# Altium footprint library Miscellaneous Devices.PcbLib: 179 footprints (part 1 of 12)
Each footprint in its own frame and in the unit in brackets; x right, y up, seen from the top. Pads: shape width x height; smd on the part's side, far side on the other; paste and mask are expansions set on the pad; w line width, h text height; cw(c..) or ccw(c..) is an arc to the next point about the centre after c.
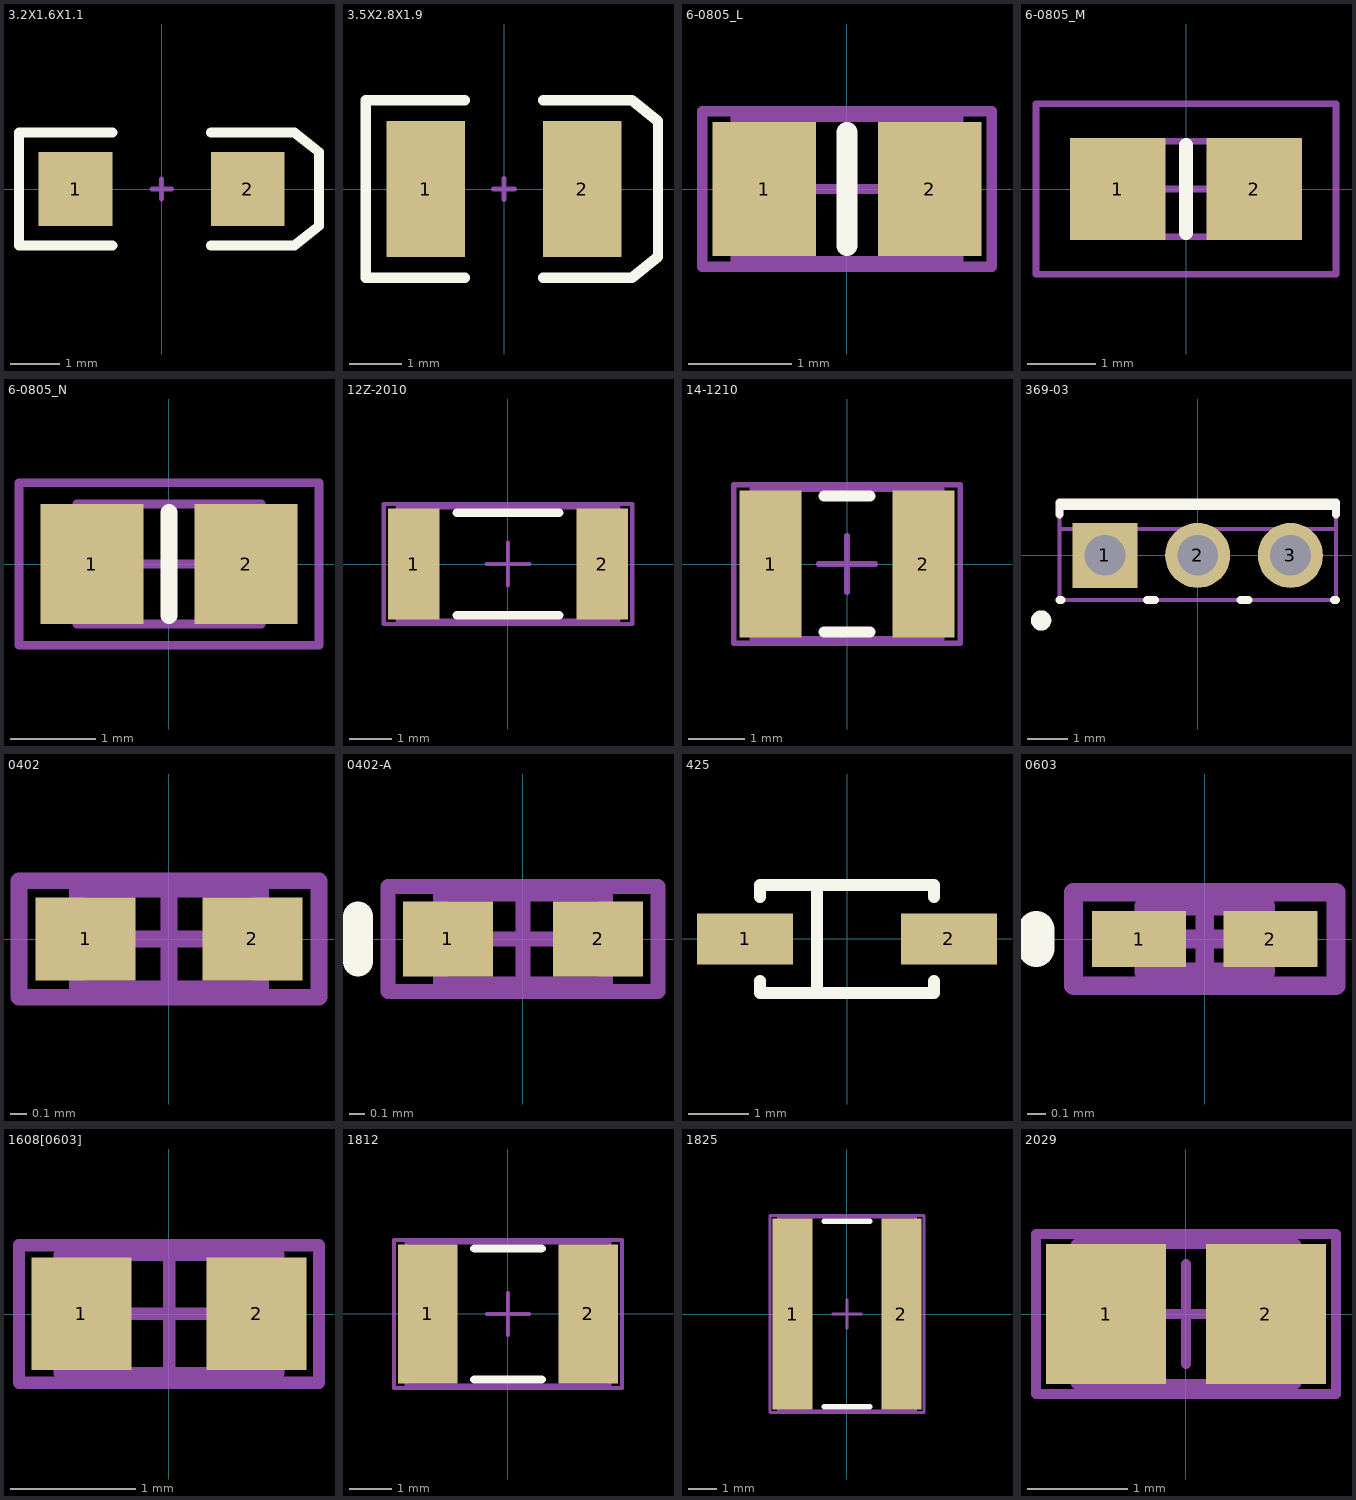
[diagram p0: the footprints below, top view; thin cyan lines are the x and y axes]

## 3.2X1.6X1.1 [mm] "SMT LED; 2 Flat Leads"
height 1.2
pads (2):
  rect 1.5x1.5 smd: 1(-1.75,0) 2(1.75,0)
Top Overlay:
  lines w0.2: -1,-1.15 -2.9,-1.15 -2.9,1.15 -1,1.15 ; 1,-1.15 2.7,-1.15 3.2,-0.75 3.2,0.75 2.7,1.15 1,1.15
Mechanical 1:
  lines w0.1: -0.2,0 0.2,0 ; 0,-0.2 0,0.2

## 3.5X2.8X1.9 [mm] "SM LED; 2 C-Bend Leads; Body 3.5 x 2.8 x 1.9 mm, inc leads (LxWxH typ)"
height 1.9
pads (2):
  rect 1.5x2.6 smd: 1(-1.5,0) 2(1.5,0)
Top Overlay:
  lines w0.2: -0.75,-1.7 -2.65,-1.7 -2.65,1.7 -0.75,1.7 ; 0.75,-1.7 2.45,-1.7 2.95,-1.3 2.95,1.3 2.45,1.7 0.75,1.7
Mechanical 1:
  lines w0.1: -0.2,0 0.2,0 ; 0,-0.2 0,0.2

## 6-0805_L [mm] "Chip Resistor, Body 2.0x1.2mm, IPC High Density"
height 0.7
pads (2):
  rect 1x1.3 smd: 1(-0.8,0) 2(0.8,0)
Top Overlay:
  lines w0.2: 0,-0.55 0,0.55
Mechanical 13:
  lines w0.1: -1.075,-0.7 -1.075,0.7 1.075,0.7 1.075,-0.7 -1.075,-0.7
Mechanical 15:
  lines w0.1: -0.5,0 0.5,0 ; 0,-0.5 0,0.5 ; -1.4,-0.75 -1.4,0.75 1.4,0.75 1.4,-0.75 -1.4,-0.75
3D body: height 0.7, standoff 0, extent -1.075,-0.7 1.075,0.7

## 6-0805_M [mm] "Chip Resistor, Body 2.0x1.2mm, IPC Low Density"
height 0.7
pads (2):
  rect 1.4x1.5 smd: 1(-1,0) 2(1,0)
Top Overlay:
  lines w0.2: 0,-0.65 0,0.65
Mechanical 13:
  lines w0.1: -1.075,-0.7 -1.075,0.7 1.075,0.7 1.075,-0.7 -1.075,-0.7
Mechanical 15:
  lines w0.1: -0.5,0 0.5,0 ; 0,-0.5 0,0.5 ; -2.2,-1.25 -2.2,1.25 2.2,1.25 2.2,-1.25 -2.2,-1.25
3D body: height 0.7, standoff 0, extent -1.075,-0.7 1.075,0.7

## 6-0805_N [mm] "Chip Resistor, Body 2.0x1.2mm, IPC Medium Density"
height 0.7
pads (2):
  rect 1.2x1.4 smd: 1(-0.9,0) 2(0.9,0)
Top Overlay:
  lines w0.2: 0,-0.6 0,0.6
Mechanical 13:
  lines w0.1: -1.075,-0.7 -1.075,0.7 1.075,0.7 1.075,-0.7 -1.075,-0.7
Mechanical 15:
  lines w0.1: -0.5,0 0.5,0 ; 0,-0.5 0,0.5 ; -1.75,-0.95 -1.75,0.95 1.75,0.95 1.75,-0.95 -1.75,-0.95
3D body: height 0.7, standoff 0, extent -1.075,-0.7 1.075,0.7

## 12Z-2010 [mm] "Chip Resistor, Body 5.0x2.5mm, IPC High Density"
height 0.9
pads (2):
  rect 1.2x2.6 smd: 1(-2.2,0) 2(2.2,0)
Top Overlay:
  lines w0.2: -1.2,-1.2 1.2,-1.2 ; -1.2,1.2 1.2,1.2
Mechanical 13:
  lines w0.1: -2.575,-1.325 -2.575,1.325 2.575,1.325 2.575,-1.325 -2.575,-1.325
Mechanical 15:
  lines w0.1: -0.5,0 0.5,0 ; 0,-0.5 0,0.5 ; -2.9,-1.4 -2.9,1.4 2.9,1.4 2.9,-1.4 -2.9,-1.4
3D body: height 0.9, standoff 0, extent -2.575,-1.325 2.575,1.325

## 14-1210 [mm] "Chip Resistor, Body 3.2x2.5mm, IPC High Density"
height 0.9
pads (2):
  rect 1.1x2.6 smd: 1(-1.35,0) 2(1.35,0)
Top Overlay:
  lines w0.2: -0.4,-1.2 0.4,-1.2 ; -0.4,1.2 0.4,1.2
Mechanical 13:
  lines w0.1: -1.675,-1.32 -1.675,1.32 1.675,1.32 1.675,-1.32 -1.675,-1.32
Mechanical 15:
  lines w0.1: -0.5,0 0.5,0 ; 0,-0.5 0,0.5 ; -2,-1.4 -2,1.4 2,1.4 2,-1.4 -2,-1.4
3D body: height 0.9, standoff 0, extent -1.675,-1.32 1.675,1.32

## 369-03 [mm] "TO, Thru-Hole, Vertical, Heatsink Mounted; 3 In-Line Leads; Pitch 2.28 mm"
height 9.7
pads (3):
  rect 1.6x1.6 hole 1: 1(-2.28,0)
  round 1.6 hole 1: 2(0,0) 3(2.28,0)
Top Overlay:
  circle w0.25: c-3.85,-1.6 r0.125
  lines w0.2: -3.4,-1.1 -3.35,-1.1 ; -3.4,1 -3.4,1.3 3.4,1.3 3.4,1 ; -3.4,1.21 3.4,1.21 ; -1.25,-1.1 -1.05,-1.1 ; 1.05,-1.1 1.25,-1.1 ; 3.35,-1.1 3.4,-1.1
Mechanical 13:
  lines w0.1: -3.4,0.65 3.4,0.65 ; -3.4,-1.1 3.4,-1.1 3.4,1.3 -3.4,1.3 -3.4,-1.1
Mechanical 15:
  lines w0.1: -0.5,0 0.5,0 ; 0,-0.5 0,0.5
3D body: height 9.3, standoff 2.6, extent -3.45,-1.15 3.45,1.35
3D body: height 9.7, standoff 9.3, extent -3.399,0.651 3.399,1.299

## 0402 [mm] "Chip Capacitor, Body 1.0x0.5mm, IPC High Density"
height 1.3
pads (2):
  rect 0.6x0.5 smd: 1(-0.5,0) 2(0.5,0)
Mechanical 13:
  lines w0.1: -0.55,-0.3 0.55,-0.3 0.55,0.3 -0.55,0.3 -0.55,-0.3
Mechanical 15:
  lines w0.1: -0.3,0 0.3,0 ; 0,-0.3 0,0.3 ; -0.9,-0.35 0.9,-0.35 0.9,0.35 -0.9,0.35 -0.9,-0.35
3D body: height 1.3, standoff 0, extent -0.55,-0.3 0.55,0.3

## 0402-A [mm] "Chip Inductor, Body 1.0x0.5mm, IPC High Density"
height 0.55
pads (2):
  rect 0.6x0.5 smd: 1(-0.5,0) 2(0.5,0)
Top Overlay:
  lines w0.2: -1.1,-0.15 -1.1,0.15
Mechanical 13:
  lines w0.1: -0.55,-0.3 -0.55,0.3 0.55,0.3 0.55,-0.3 -0.55,-0.3
Mechanical 15:
  lines w0.1: -0.3,0 0.3,0 ; 0,-0.3 0,0.3 ; -0.9,-0.35 -0.9,0.35 0.9,0.35 0.9,-0.35 -0.9,-0.35
3D body: height 0.55, standoff 0, extent -0.55,-0.3 0.55,0.3

## 425 [mm] "SOD-123; 2 Leads; Body 2.7 x 1.6 mm, (LxW)"
height 1.35
pads (2):
  rect 1.6x0.85 smd: 1(-1.7,0) 2(1.7,0)
Top Overlay:
  lines w0.2: -1.45,-0.7 -1.45,-0.9 1.45,-0.9 1.45,-0.7 ; -1.45,0.7 -1.45,0.9 1.45,0.9 1.45,0.7 ; -0.5,-0.9 -0.5,0.9

## 0603 [mm] "Chip Inductor, Body 0.6x0.3mm, IPC High Density"
height 0.55
pads (2):
  rect 0.5x0.3 smd: 1(-0.35,0) 2(0.35,0)
Top Overlay:
  lines w0.2: -0.9,-0.05 -0.9,0.05
Mechanical 13:
  lines w0.1: -0.325,-0.175 -0.325,0.175 0.325,0.175 0.325,-0.175 -0.325,-0.175
Mechanical 15:
  lines w0.1: -0.175,0 0.175,0 ; 0,-0.175 0,0.175 ; -0.7,-0.25 -0.7,0.25 0.7,0.25 0.7,-0.25 -0.7,-0.25
3D body: height 0.55, standoff 0, extent -0.325,-0.175 0.325,0.175

## 1608[0603] [mm] "Chip Capacitor, Body 1.6x0.8mm, IPC High Density"
height 1.3
pads (2):
  rect 0.8x0.9 smd: 1(-0.7,0) 2(0.7,0)
Mechanical 13:
  lines w0.1: -0.875,-0.475 -0.875,0.475 0.875,0.475 0.875,-0.475 -0.875,-0.475
Mechanical 15:
  lines w0.1: -0.475,0 0.475,0 ; 0,-0.475 0,0.475 ; -1.2,-0.55 -1.2,0.55 1.2,0.55 1.2,-0.55 -1.2,-0.55
3D body: height 1.3, standoff 0, extent -0.875,-0.475 0.875,0.475

## 1812 [mm] "Chip Capacitor, Body 4.5x3.2mm, IPC High Density"
height 1.4
pads (2):
  rect 1.4x3.3 smd: 1(-1.9,0) 2(1.9,0)
Top Overlay:
  lines w0.2: -0.8,-1.55 0.8,-1.55 ; -0.8,1.55 0.8,1.55
Mechanical 13:
  lines w0.1: -2.4,-1.7 2.4,-1.7 2.4,1.7 -2.4,1.7 -2.4,-1.7
Mechanical 15:
  lines w0.1: -0.5,0 0.5,0 ; 0,-0.5 0,0.5 ; -2.7,-1.75 2.7,-1.75 2.7,1.75 -2.7,1.75 -2.7,-1.75
3D body: height 1.4, standoff 0, extent -2.4,-1.7 2.4,1.7

## 1825 [mm] "Chip Capacitor, Body 4.5x6.4mm, IPC High Density"
height 1.4
pads (2):
  rect 1.4x6.7 smd: 1(-1.9,0) 2(1.9,0)
Top Overlay:
  lines w0.2: -0.8,-3.25 0.8,-3.25 ; -0.8,3.25 0.8,3.25
Mechanical 13:
  lines w0.1: -2.4,-3.4 2.4,-3.4 2.4,3.4 -2.4,3.4 -2.4,-3.4
Mechanical 15:
  lines w0.1: -0.5,0 0.5,0 ; 0,-0.5 0,0.5 ; -2.7,-3.45 2.7,-3.45 2.7,3.45 -2.7,3.45 -2.7,-3.45
3D body: height 1.4, standoff 0, extent -2.4,-3.4 2.4,3.4

## 2029 [mm] "Chip Inductor, Body 2.0x1.2mm, IPC High Density"
height 0.55
pads (2):
  rect 1.2x1.4 smd: 1(-0.8,0) 2(0.8,0)
Mechanical 13:
  lines w0.1: -1.1,-0.7 -1.1,0.7 1.1,0.7 1.1,-0.7 -1.1,-0.7
Mechanical 15:
  lines w0.1: -0.5,0 0.5,0 ; 0,-0.5 0,0.5 ; -1.5,-0.8 -1.5,0.8 1.5,0.8 1.5,-0.8 -1.5,-0.8
3D body: height 0.55, standoff 0, extent -1.1,-0.7 1.1,0.7